# Altium footprint library SOT-553.PcbLib: 1 footprints
Each footprint in its own frame and in the unit in brackets; x right, y up, seen from the top. Pads: shape width x height; smd on the part's side, far side on the other; paste and mask are expansions set on the pad; w line width, h text height; cw(c..) or ccw(c..) is an arc to the next point about the centre after c.
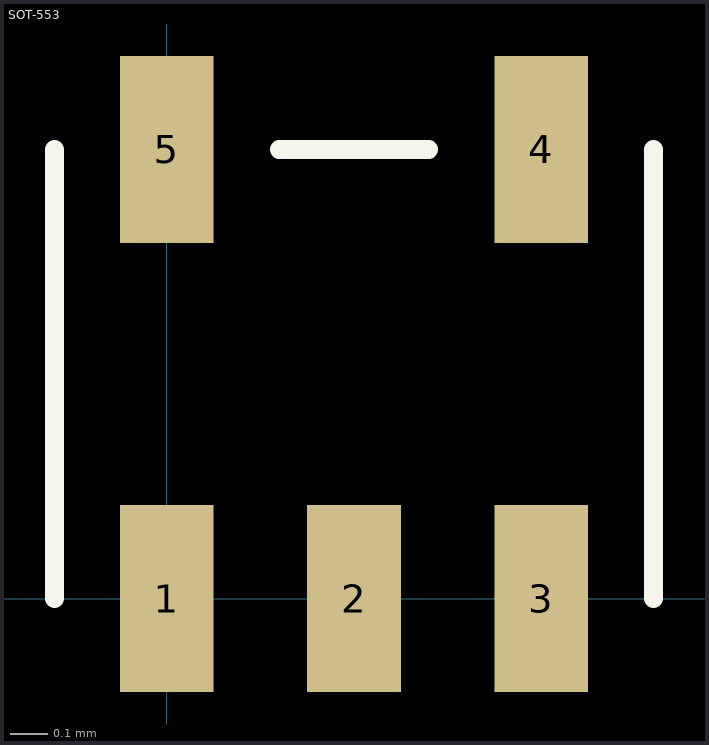
[diagram p0: the footprint, top view; thin cyan lines are the x and y axes]

## SOT-553 [mm] "SOT-553"
height 0.6
pads (5):
  rect 0.25x0.5 smd: 1(0,0) 2(0.5,0) 3(1,0) 4(1,1.2) 5(0,1.2)
Top Overlay:
  lines w0.05: -0.3,0 -0.3,1.2 ; 0.3,1.2 0.7,1.2 ; 1.3,0 1.3,1.2
3D body: height 0.55, standoff 0, extent -0.3,0 1.3,1.2